# EAGLE library part WE-BMS_74942400 (library Wurth_Signal & Communications_WE-BMS)
WE-BMS Transformer for Battery Management Systems Characteristics Supports BMS isolation Supports serial daisy chain isoSPI and SPI 800 VDC and 1000 VDC working voltage AEC-Q200 qualification Operating temperature: -40°C up to +125°C Applications Solar energy storage Energy Storage systems Uninterrupted Power Supply (UPS) E-bikes, E-scooters <https://www.we-online.com/components/media/o489329v209%20UtBMS_Group.jpg> Details see: www.we-online.com/en/components/products/WE-BMS <www.we-online.com/catalog/WE-BMS/?utm_source=eagle_model&utm_medium=description_link&utm_campaign=eisos_eagle> Created by Ella Wu 2024-04-08 2024 (C) Würth Elektronik
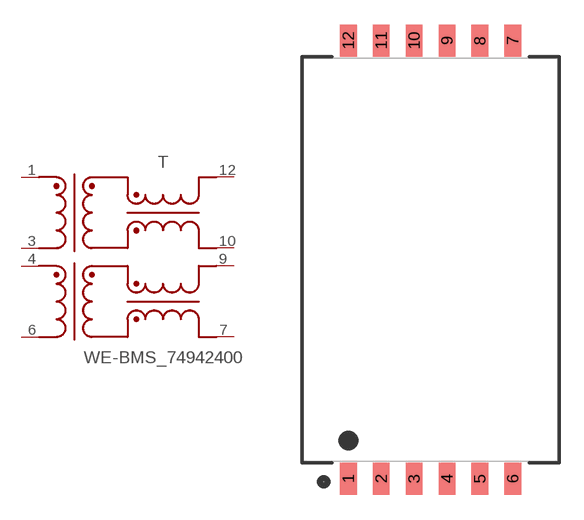
[diagram p4: symbol with the pads of WE-BMS_74942400; footprint WE-BMS_74942400]

Designator prefix T

## WE-BMS_74942400 (CREEPAGE-DISTANCE: 15mm; DATASHEET-URL: https://www.we-online.com/redexpert/spec/74942400?ae; HEIGHT: 4.85mm; INSULATION-TEST-VOLTAGE: 6400V(DC); LENGTH: 15.45mm; MOUNT: SMT; NUMBER-OF-PORTS: 2; PART-NUMBER: 74942400; VALUE: 74942400; WIDTH: 27.85mm; WORKING-VOLTAGE: 1500V(DC))  [WE-BMS_74942400]
1  1  pas
3  3  pas
4  4  pas
6  6  pas
7  7  pas
9  9  pas
10  10  pas
12  12  pas

## Footprint WE-BMS_74942400 (pad centres in mm)
smd 1.02 x 1.95: 1 -5,-13.325; 2 -3,-13.325; 3 -1,-13.325; 4 1,-13.325; 5 3,-13.325; 6 5,-13.325; 7 5,13.325; 8 3,13.325; 9 1,13.325; 10 -1,13.325; 11 -3,13.325; 12 -5,13.325